# Altium integrated library NSC Audio.IntLib: 304 symbols (part 8 of 8)
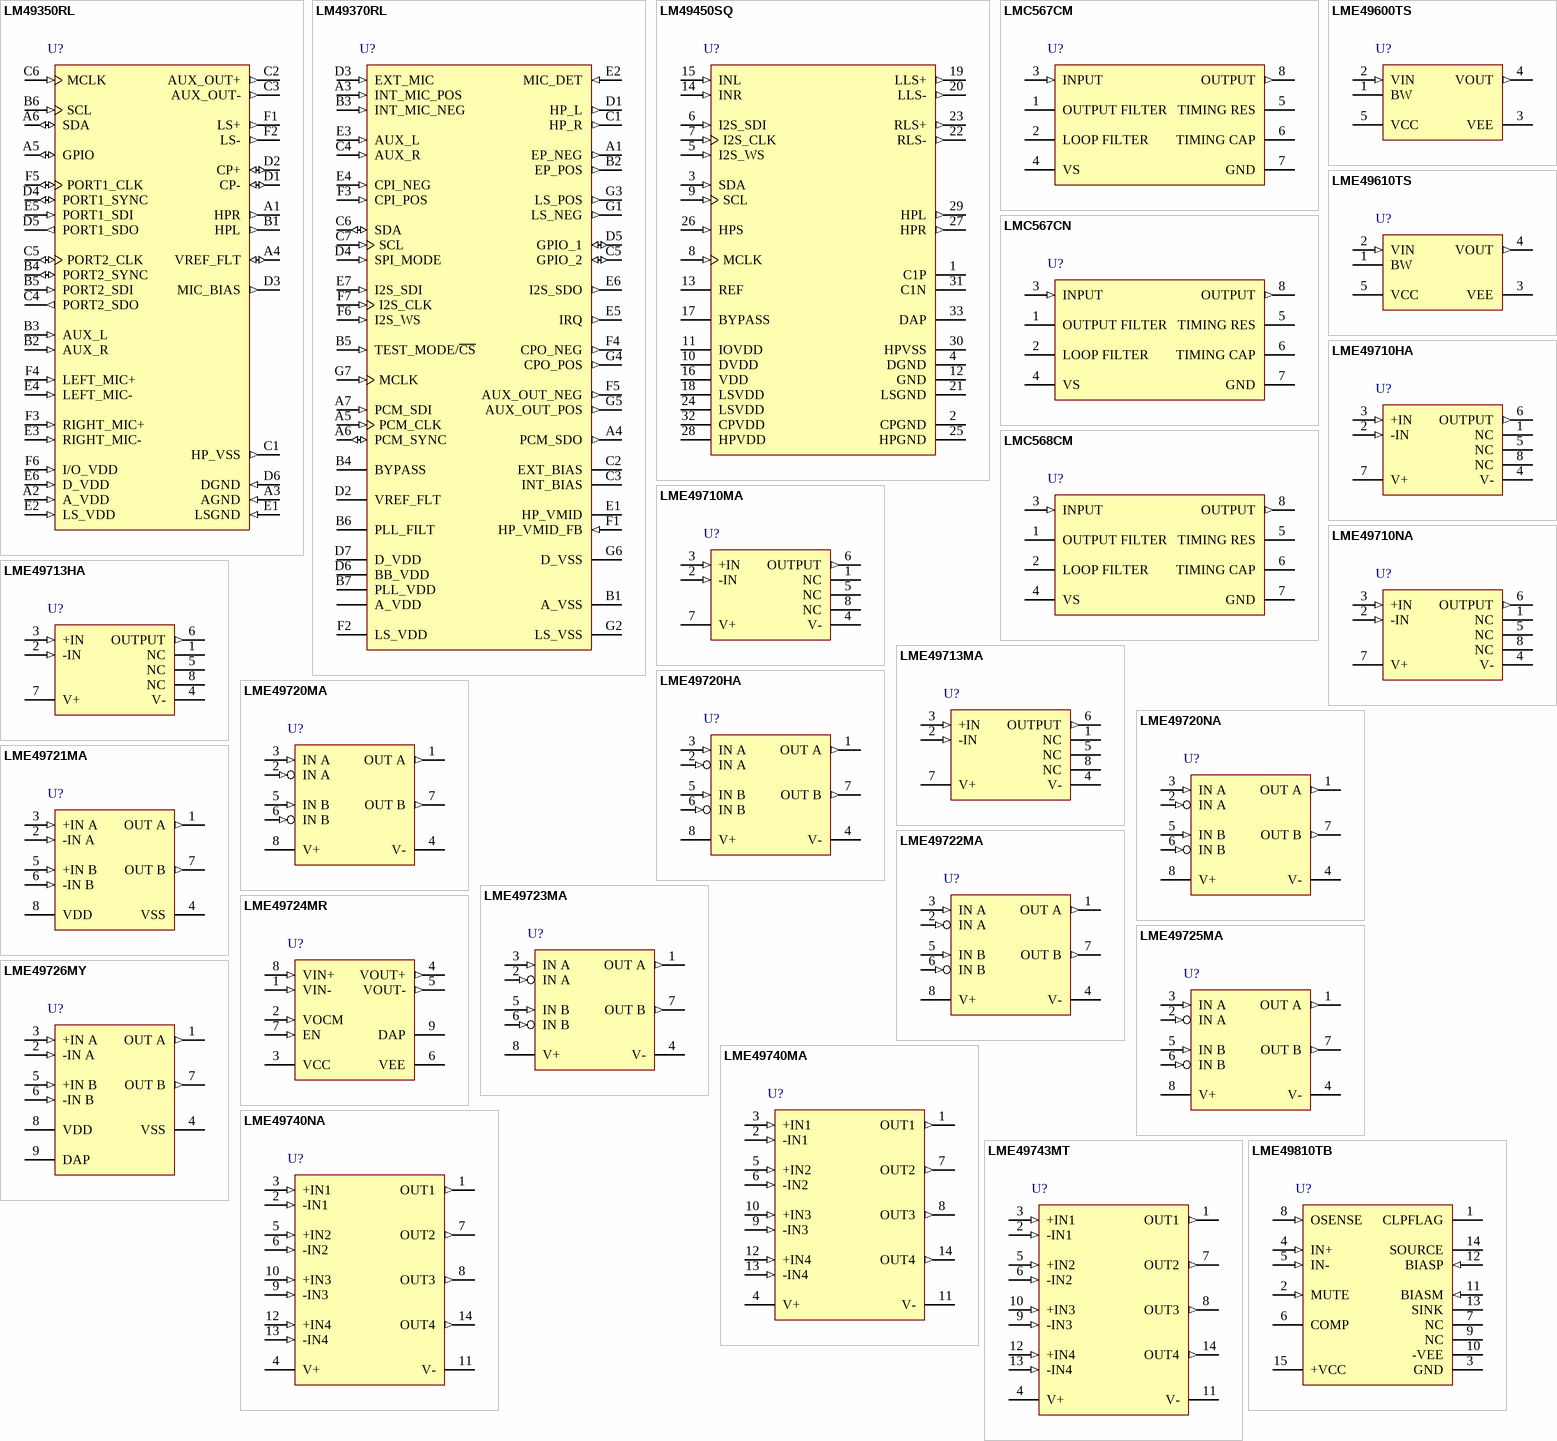
[diagram p19: symbols LM49350RL to LME49810TB]

## LME49713HA
designator U?
High Performance, High Fidelity Current Feedback Audio Operational Amplifier; PartNumber: LME49713HA; Manufacturer: National Semiconductor; CompType: Audio IC; PackageTopMarking: NSZXYTTE#*LME*49713HA; PowerWise: N; Published: 4-Dec-2008; DatasheetVersion: Aug-2008; PackageVersion: revF, Jun-1995; PackageReference: H08C; Publisher: Altium Limited; PackageDescription: Metal Can, TO-99, 8 Lead, .200 Dia., P.C.; RoHS: Y; PinCount: 8; Code_JEDEC: TO-99; ComponentLink1Description: LME49713 Datasheet; ComponentLink1URL: http://www.national.com/ds/LM/LME49713.pdf; ComponentLink2Description: LME49713 Web Page; ComponentLink2URL: http://www.national.com/pf/LM/LME49713.html; ComponentLink3Description: H08C Package Page; ComponentLink3URL: http://www.national.com/packaging/folders/h08c.html
footprint H08C (Can; 8 Leads; Pin Circle Dia. 5.08 mm; Lead Dia. 0.48 mm (max))
pins: 1 NC, 2 -IN (in), 3 +IN (in), 4 V- (power), 5 NC, 6 OUTPUT (out), 7 V+ (power), 8 NC

## LME49713MA
designator U?
High Performance, High Fidelity Current Feedback Audio Operational Amplifier; PartNumber: LME49713MA; Manufacturer: National Semiconductor; CompType: Audio IC; PackageTopMarking: NSZXTT*L49713*MA; PowerWise: N; Published: 4-Dec-2008; DatasheetVersion: Aug-2008; PackageVersion: revL, Sep-2006; PackageReference: M08A; Publisher: Altium Limited; PackageDescription: SOIC Narrow, 4.9 x 3.9 x 1.45mm, 8 Lead, 1.27mm Pitch; RoHS: Y; PinCount: 8; DigiKeyPartNumber: LME49713MA-ND; Code_JEDEC: MS-012-AA; Code_IPC: SOIC127P600-8; ComponentLink1Description: LME49713 Datasheet; ComponentLink1URL: http://www.national.com/ds/LM/LME49713.pdf; ComponentLink2Description: LME49713 Web Page; ComponentLink2URL: http://www.national.com/pf/LM/LME49713.html; ComponentLink3Description: M08A Package Page; ComponentLink3URL: http://www.national.com/packaging/folders/m08a.html
footprint M08A_N (SOIC, 8-Leads, Body 4.9x3.9mm, Pitch 1.27mm, IPC Medium Density)
footprint M08A_L (SOIC, 8-Leads, Body 4.9x3.9mm, Pitch 1.27mm, IPC High Density)
footprint M08A_M (SOIC, 8-Leads, Body 4.9x3.9mm, Pitch 1.27mm, IPC Low Density)
pins: 1 NC, 2 -IN (in), 3 +IN (in), 4 V- (power), 5 NC, 6 OUTPUT (out), 7 V+ (power), 8 NC

## LME49720HA
designator U?
Dual High Performance, High Fidelity Audio Operational Amplifier; PartNumber: LME49720HA; Manufacturer: National Semiconductor; CompType: Audio IC; PackageTopMarking: NSZXYTTE#*LME*49720HA; PowerWise: Y; Published: 4-Dec-2008; DatasheetVersion: Oct-2007; PackageVersion: revF, Jun-1995; PackageReference: H08C; Publisher: Altium Limited; PackageDescription: Metal Can, TO-99, 8 Lead, .200 Dia., P.C.; RoHS: Y; PinCount: 8; DigiKeyPartNumber: LME49720HA-ND; Code_JEDEC: TO-99; ComponentLink1Description: LME49720 Datasheet; ComponentLink1URL: http://www.national.com/ds/LM/LME49720.pdf; ComponentLink2Description: LME49720 Web Page; ComponentLink2URL: http://www.national.com/pf/LM/LME49720.html; ComponentLink3Description: H08C Package Page; ComponentLink3URL: http://www.national.com/packaging/folders/h08c.html
footprint H08C (Can; 8 Leads; Pin Circle Dia. 5.08 mm; Lead Dia. 0.48 mm (max))
pins: 1 OUT A (out), 2 IN A (in), 3 IN A (in), 4 V- (power), 5 IN B (in), 6 IN B (in), 7 OUT B (out), 8 V+ (power)

## LME49720MA
designator U?
Dual High Performance, High Fidelity Audio Operational Amplifier; PartNumber: LME49720MA; Manufacturer: National Semiconductor; CompType: Audio IC; PackageTopMarking: NSZXTT*L49720*MA; PowerWise: Y; Published: 4-Dec-2008; DatasheetVersion: Oct-2007; PackageVersion: revL, Sep-2006; PackageReference: M08A; Publisher: Altium Limited; PackageDescription: SOIC Narrow, 4.9 x 3.9 x 1.45mm, 8 Lead, 1.27mm Pitch; RoHS: Y; PinCount: 8; DigiKeyPartNumber: LME49720MA-ND; Code_JEDEC: MS-012-AA; Code_IPC: SOIC127P600-8; ComponentLink1Description: LME49720 Datasheet; ComponentLink1URL: http://www.national.com/ds/LM/LME49720.pdf; ComponentLink2Description: LME49720 Web Page; ComponentLink2URL: http://www.national.com/pf/LM/LME49720.html; ComponentLink3Description: M08A Package Page; ComponentLink3URL: http://www.national.com/packaging/folders/m08a.html
footprint M08A_N (SOIC, 8-Leads, Body 4.9x3.9mm, Pitch 1.27mm, IPC Medium Density)
footprint M08A_L (SOIC, 8-Leads, Body 4.9x3.9mm, Pitch 1.27mm, IPC High Density)
footprint M08A_M (SOIC, 8-Leads, Body 4.9x3.9mm, Pitch 1.27mm, IPC Low Density)
pins: 1 OUT A (out), 2 IN A (in), 3 IN A (in), 4 V- (power), 5 IN B (in), 6 IN B (in), 7 OUT B (out), 8 V+ (power)

## LME49720NA
designator U?
Dual High Performance, High Fidelity Audio Operational Amplifier; PartNumber: LME49720NA; Manufacturer: National Semiconductor; CompType: Audio IC; PackageTopMarking: NSUZXYTT*LME*49720NA; PowerWise: Y; Published: 4-Dec-2008; DatasheetVersion: Oct-2007; PackageVersion: revG, May-2006; PackageReference: N08E; Publisher: Altium Limited; PackageDescription: MDIP, .365 x .250 x .130in, 8 Lead, .100in Pitch; RoHS: Y; PinCount: 8; DigiKeyPartNumber: LME49720NA-ND; Code_JEDEC: MS-001-BA; ComponentLink1Description: LME49720 Datasheet; ComponentLink1URL: http://www.national.com/ds/LM/LME49720.pdf; ComponentLink2Description: LME49720 Web Page; ComponentLink2URL: http://www.national.com/pf/LM/LME49720.html; ComponentLink3Description: N08E Package Page; ComponentLink3URL: http://www.national.com/packaging/folders/n08e.html
footprint N08E (DIP, 8-Leads, Row Spacing 7.62mm, Pitch 2.54mm, Body 9.91x6.35mm)
pins: 1 OUT A (out), 2 IN A (in), 3 IN A (in), 4 V- (power), 5 IN B (in), 6 IN B (in), 7 OUT B (out), 8 V+ (power)

## LME49721MA
designator U?
High Performance, High Fidelity Rail-to-Rail Input/Output Audio Operational Amplifier; PartNumber: LME49721MA; Manufacturer: National Semiconductor; CompType: Audio IC; PackageTopMarking: NSZXTT*L49721*MA; PowerWise: N; Published: 4-Dec-2008; DatasheetVersion: Oct-2007; PackageVersion: revL, Sep-2006; PackageReference: M08A; Publisher: Altium Limited; PackageDescription: SOIC Narrow, 4.9 x 3.9 x 1.45mm, 8 Lead, 1.27mm Pitch; RoHS: O; PinCount: 8; DigiKeyPartNumber: LME49721MA-ND; Code_JEDEC: MS-012-AA; Code_IPC: SOIC127P600-8; ComponentLink1Description: LME49721 Datasheet; ComponentLink1URL: http://www.national.com/ds/LM/LME49721.pdf; ComponentLink2Description: LME49721 Web Page; ComponentLink2URL: http://www.national.com/pf/LM/LME49721.html; ComponentLink3Description: M08A Package Page; ComponentLink3URL: http://www.national.com/packaging/folders/m08a.html
footprint M08A_N (SOIC, 8-Leads, Body 4.9x3.9mm, Pitch 1.27mm, IPC Medium Density)
footprint M08A_L (SOIC, 8-Leads, Body 4.9x3.9mm, Pitch 1.27mm, IPC High Density)
footprint M08A_M (SOIC, 8-Leads, Body 4.9x3.9mm, Pitch 1.27mm, IPC Low Density)
pins: 1 OUT A (out), 2 -IN A (in), 3 +IN A (in), 4 VSS (power), 5 +IN B (in), 6 -IN B (in), 7 OUT B (out), 8 VDD (power)

## LME49722MA
designator U?
Low Noise,  High Performance, High Fidelity Dual Audio Operational Amplifier; PartNumber: LME49722MA; Manufacturer: National Semiconductor; CompType: Audio IC; PackageTopMarking: NSZXTT*L49722*MA; PowerWise: N; Published: 4-Dec-2008; DatasheetVersion: Mar-2008; PackageVersion: revL, Sep-2006; PackageReference: M08A; Publisher: Altium Limited; PackageDescription: SOIC Narrow, 4.9 x 3.9 x 1.45mm, 8 Lead, 1.27mm Pitch; RoHS: Y; PinCount: 8; DigiKeyPartNumber: LME49722MA-ND; Code_JEDEC: MS-012-AA; Code_IPC: SOIC127P600-8; ComponentLink1Description: LME49722 Datasheet; ComponentLink1URL: http://www.national.com/ds/LM/LME49722.pdf; ComponentLink2Description: LME49722 Web Page; ComponentLink2URL: http://www.national.com/pf/LM/LME49722.html; ComponentLink3Description: M08A Package Page; ComponentLink3URL: http://www.national.com/packaging/folders/m08a.html
footprint M08A_N (SOIC, 8-Leads, Body 4.9x3.9mm, Pitch 1.27mm, IPC Medium Density)
footprint M08A_L (SOIC, 8-Leads, Body 4.9x3.9mm, Pitch 1.27mm, IPC High Density)
footprint M08A_M (SOIC, 8-Leads, Body 4.9x3.9mm, Pitch 1.27mm, IPC Low Density)
pins: 1 OUT A (out), 2 IN A (in), 3 IN A (in), 4 V- (power), 5 IN B (in), 6 IN B (in), 7 OUT B (out), 8 V+ (power)

## LME49723MA
designator U?
Dual High Fidelity Audio Operational Amplifier; PartNumber: LME49723MA; Manufacturer: National Semiconductor; CompType: Audio IC; PackageTopMarking: NSZXTT*L49723*MA; PowerWise: N; Published: 4-Dec-2008; DatasheetVersion: Feb-2008; PackageVersion: revL, Sep-2006; PackageReference: M08A; Publisher: Altium Limited; PackageDescription: SOIC Narrow, 4.9 x 3.9 x 1.45mm, 8 Lead, 1.27mm Pitch; RoHS: Y; PinCount: 8; DigiKeyPartNumber: LME49723MA-ND; Code_JEDEC: MS-012-AA; Code_IPC: SOIC127P600-8; ComponentLink1Description: LME49723 Datasheet; ComponentLink1URL: http://www.national.com/ds/LM/LME49723.pdf; ComponentLink2Description: LME49723 Web Page; ComponentLink2URL: http://www.national.com/pf/LM/LME49723.html; ComponentLink3Description: M08A Package Page; ComponentLink3URL: http://www.national.com/packaging/folders/m08a.html
footprint M08A_N (SOIC, 8-Leads, Body 4.9x3.9mm, Pitch 1.27mm, IPC Medium Density)
footprint M08A_L (SOIC, 8-Leads, Body 4.9x3.9mm, Pitch 1.27mm, IPC High Density)
footprint M08A_M (SOIC, 8-Leads, Body 4.9x3.9mm, Pitch 1.27mm, IPC Low Density)
pins: 1 OUT A (out), 2 IN A (in), 3 IN A (in), 4 V- (power), 5 IN B (in), 6 IN B (in), 7 OUT B (out), 8 V+ (power)

## LME49724MR
designator U?
High Performance, High Fidelity, Fully-Differential Audio Operational Amplifier; PartNumber: LME49724MR; Manufacturer: National Semiconductor; CompType: Audio IC; PackageTopMarking: NSXYTT*L49724*MR; PowerWise: N; Published: 29-May-2009; DatasheetVersion: Nov-2008; PackageVersion: revB, Dec-2007; PackageReference: MRA08B; Publisher: Altium Limited; PackageDescription: Molded, PSOP .193 x .154 x .058in, 8 Lead, .050in Pitch, Large DAP; RoHS: Y; PinCount: 8; DigiKeyPartNumber: LME49724MR-ND; Code_JEDEC: MS-012-AA; ComponentLink1Description: LME49724 Datasheet; ComponentLink1URL: http://www.national.com/ds/LM/LME49724.pdf; ComponentLink2Description: LME49724 Web Page; ComponentLink2URL: http://www.national.com/pf/LM/LME49724.html; ComponentLink3Description: MRA08B Package Page; ComponentLink3URL: http://www.national.com/packaging/folders/mra08b.html
footprint MRA08B_N (SOIC, 8-Leads, Body 4.9x3.9mm, Pitch 1.27mm, Exposed Pad, IPC Medium Density)
footprint MRA08B_L (SOIC, 8-Leads, Body 4.9x3.9mm, Pitch 1.27mm, Exposed Pad, IPC High Density)
footprint MRA08B_M (SOIC, 8-Leads, Body 4.9x3.9mm, Pitch 1.27mm, Exposed Pad, IPC Low Density)
pins: 1 VIN- (in), 2 VOCM (in), 3 VCC (power), 4 VOUT+ (out), 5 VOUT- (out), 6 VEE (power), 7 EN (in), 8 VIN+ (in), 9 DAP (power)

## LME49725MA
designator U?
PowerWise(R) Dual High Performance, High Fidelity Audio Operational Amplifier; PartNumber: LME49725MA; Manufacturer: National Semiconductor; CompType: Audio IC; PackageTopMarking: NSZXTT*L49725*MA; PowerWise: Y; Published: 4-Dec-2008; DatasheetVersion: Apr-2008; PackageVersion: revL, Sep-2006; PackageReference: M08A; Publisher: Altium Limited; PackageDescription: SOIC Narrow, 4.9 x 3.9 x 1.45mm, 8 Lead, 1.27mm Pitch; RoHS: Y; PinCount: 8; DigiKeyPartNumber: LME49725MA-ND; Code_JEDEC: MS-012-AA; Code_IPC: SOIC127P600-8; ComponentLink1Description: LME49725 Datasheet; ComponentLink1URL: http://www.national.com/ds/LM/LME49725.pdf; ComponentLink2Description: LME49725 Web Page; ComponentLink2URL: http://www.national.com/pf/LM/LME49725.html; ComponentLink3Description: M08A Package Page; ComponentLink3URL: http://www.national.com/packaging/folders/m08a.html
footprint M08A_N (SOIC, 8-Leads, Body 4.9x3.9mm, Pitch 1.27mm, IPC Medium Density)
footprint M08A_L (SOIC, 8-Leads, Body 4.9x3.9mm, Pitch 1.27mm, IPC High Density)
footprint M08A_M (SOIC, 8-Leads, Body 4.9x3.9mm, Pitch 1.27mm, IPC Low Density)
pins: 1 OUT A (out), 2 IN A (in), 3 IN A (in), 4 V- (power), 5 IN B (in), 6 IN B (in), 7 OUT B (out), 8 V+ (power)

## LME49726MY
designator U?
High Current, Low Distortion Rail-to-Rail Output Audio Operational Amplifier; PartNumber: LME49726MY; Manufacturer: National Semiconductor; CompType: Audio IC; PackageTopMarking: ZXTT*ZA3; PowerWise: N; Published: 4-Dec-2008; DatasheetVersion: Nov-2008; PackageVersion: revA, Nov-2003; PackageReference: MUY08A; Publisher: Altium Limited; PackageDescription: Molded Mini-SO, Exposed Pad, .118 x .118 x .034in Body, 8 Lead, .0256in Pitch; RoHS: Y; PinCount: 8; Code_JEDEC: MO-187-AA; ComponentLink1Description: LME49726 Datasheet; ComponentLink1URL: http://www.national.com/ds/LM/LME49726.pdf; ComponentLink2Description: LME49726 Web Page; ComponentLink2URL: http://www.national.com/pf/LM/LME49726.html; ComponentLink3Description: MUY08A Package Page; ComponentLink3URL: http://www.national.com/packaging/folders/muy08a.html
footprint MUY08A_N (TSOP, 8-Leads, Body 3x3mm, Pitch 0.65mm, Exposed Pad, IPC Medium Density)
footprint MUY08A_L (TSOP, 8-Leads, Body 3x3mm, Pitch 0.65mm, Exposed Pad, IPC High Density)
footprint MUY08A_M (TSOP, 8-Leads, Body 3x3mm, Pitch 0.65mm, Exposed Pad, IPC Low Density)
pins: 1 OUT A (out), 2 -IN A (in), 3 +IN A (in), 4 VSS (power), 5 +IN B (in), 6 -IN B (in), 7 OUT B (out), 8 VDD (power), 9 DAP (power)

## LME49740MA
designator U?
Quad High Performance, High Fidelity Audio Operational Amplifier; PartNumber: LME49740MA; Manufacturer: National Semiconductor; CompType: Audio IC; PackageTopMarking: NSUZXYTT*LME49740*MA; PowerWise: Y; Published: 4-Dec-2008; DatasheetVersion: Feb-2008; PackageVersion: revJ, Jan-1996; PackageReference: M14A; Publisher: Altium Limited; PackageDescription: Molded Package S.O., .150in Wide, 14 Lead; RoHS: Y; PinCount: 14; DigiKeyPartNumber: LME49740MA-ND; Code_JEDEC: MS-012AB; Code_IPC: SOIC127P600-14; ComponentLink1Description: LME49740 Datasheet; ComponentLink1URL: http://www.national.com/ds/LM/LME49740.pdf; ComponentLink2Description: LME49740 Web Page; ComponentLink2URL: http://www.national.com/pf/LM/LME49740.html; ComponentLink3Description: M14A Package Page; ComponentLink3URL: http://www.national.com/packaging/folders/m14a.html
footprint M14A_N (SOIC, 14-Leads, Body 8.6x3.9mm, Pitch 1.27mm, IPC Medium Density)
footprint M14A_L (SOIC, 14-Leads, Body 8.6x3.9mm, Pitch 1.27mm, IPC High Density)
footprint M14A_M (SOIC, 14-Leads, Body 8.6x3.9mm, Pitch 1.27mm, IPC Low Density)
pins: 1 OUT1 (out), 2 -IN1 (in), 3 +IN1 (in), 4 V+ (power), 5 +IN2 (in), 6 -IN2 (in), 7 OUT2 (out), 8 OUT3 (out), 9 -IN3 (in), 10 +IN3 (in), 11 V- (power), 12 +IN4 (in), 13 -IN4 (in), 14 OUT4 (out)

## LME49740NA
designator U?
Quad High Performance, High Fidelity Audio Operational Amplifier; PartNumber: LME49740NA; Manufacturer: National Semiconductor; CompType: Audio IC; PackageTopMarking: NSUZXYYTTE#*LME49740NA; PowerWise: Y; Published: 4-Dec-2008; DatasheetVersion: Feb-2008; PackageVersion: revG, May-2006; PackageReference: N14A; Publisher: Altium Limited; PackageDescription: MDIP, .750 x .250 x.130in, 14 Lead, .100in Pitch; RoHS: Y; PinCount: 14; DigiKeyPartNumber: LME49740NA-ND; Code_JEDEC: MS-001-AA; ComponentLink1Description: LME49740 Datasheet; ComponentLink1URL: http://www.national.com/ds/LM/LME49740.pdf; ComponentLink2Description: LME49740 Web Page; ComponentLink2URL: http://www.national.com/pf/LM/LME49740.html; ComponentLink3Description: N14A Package Page; ComponentLink3URL: http://www.national.com/packaging/folders/n14a.html
footprint N14A (DIP, 14-Leads, Row Spacing 7.62mm, Pitch 2.54mm, Body 19.56x6.35mm)
pins: 1 OUT1 (out), 2 -IN1 (in), 3 +IN1 (in), 4 V+ (power), 5 +IN2 (in), 6 -IN2 (in), 7 OUT2 (out), 8 OUT3 (out), 9 -IN3 (in), 10 +IN3 (in), 11 V- (power), 12 +IN4 (in), 13 -IN4 (in), 14 OUT4 (out)

## LME49743MT
designator U?
Quad High Performance, High Fidelity Audio Operational Amplifier; PartNumber: LME49743MT; Manufacturer: National Semiconductor; CompType: Audio IC; PackageTopMarking: NSUZXYTT*L49743*MT; PowerWise: N; Published: 4-Dec-2008; DatasheetVersion: Mar-2008; PackageVersion: revD, Jun-2003; PackageReference: MTC14; Publisher: Altium Limited; PackageDescription: Molded TSSOP, JEDEC, 5 x 4.4 x 0.9mm Body, 14 Lead, 0.65mm Pitch; RoHS: Y; PinCount: 14; DigiKeyPartNumber: LME49743MT-ND; Code_JEDEC: MO-153-AB-1; ComponentLink1Description: LME49743 Datasheet; ComponentLink1URL: http://www.national.com/ds/LM/LME49743.pdf; ComponentLink2Description: LME49743 Web Page; ComponentLink2URL: http://www.national.com/pf/LM/LME49743.html; ComponentLink3Description: MTC14 Package Page; ComponentLink3URL: http://www.national.com/packaging/folders/mtc14.html
footprint MTC14_N (TSOP, 14-Leads, Body 5x4.4mm, Pitch 0.65mm, IPC Medium Density)
footprint MTC14_L (TSOP, 14-Leads, Body 5x4.4mm, Pitch 0.65mm, IPC High Density)
footprint MTC14_M (TSOP, 14-Leads, Body 5x4.4mm, Pitch 0.65mm, IPC Low Density)
pins: 1 OUT1 (out), 2 -IN1 (in), 3 +IN1 (in), 4 V+ (power), 5 +IN2 (in), 6 -IN2 (in), 7 OUT2 (out), 8 OUT3 (out), 9 -IN3 (in), 10 +IN3 (in), 11 V- (power), 12 +IN4 (in), 13 -IN4 (in), 14 OUT4 (out)

## LME49810TB
designator U?
200V Audio Power Amplifier Driver  with Baker Clamp; PartNumber: LME49810TB; Manufacturer: National Semiconductor; CompType: Audio IC; PackageTopMarking: NSUZXYTT*LME49810*TB; PowerWise: N; Published: 4-Dec-2008; DatasheetVersion: Sep-2007; PackageVersion: revA, Feb-2005; PackageReference: TB15A; Publisher: Altium Limited; PackageDescription: TO-247, Molded, 19.0 x 11.5 x 2.54mm, 15 Lead, 0.965mm Pitch; RoHS: Y; PinCount: 15; DigiKeyPartNumber: LME49810TB-ND; ComponentLink1Description: LME49810 Datasheet; ComponentLink1URL: http://www.national.com/ds/LM/LME49810.pdf; ComponentLink2Description: LME49810 Web Page; ComponentLink2URL: http://www.national.com/pf/LM/LME49810.html; ComponentLink3Description: TB15A Package Page; ComponentLink3URL: http://www.national.com/packaging/folders/tb15a.html
footprint TB15A (In-Line; 15 Zig-Zag Leads; Body 19 x 2.54mm; Pitch 0.965mm)
pins: 1 CLPFLAG (oc), 2 MUTE (in), 3 GND (power), 4 IN+ (in), 5 IN- (in), 6 COMP, 7 NC, 8 OSENSE (in), 9 NC, 10 -VEE (power), 11 BIASM (in), 12 BIASP (in), 13 SINK (oc), 14 SOURCE (oe), 15 +VCC (power)

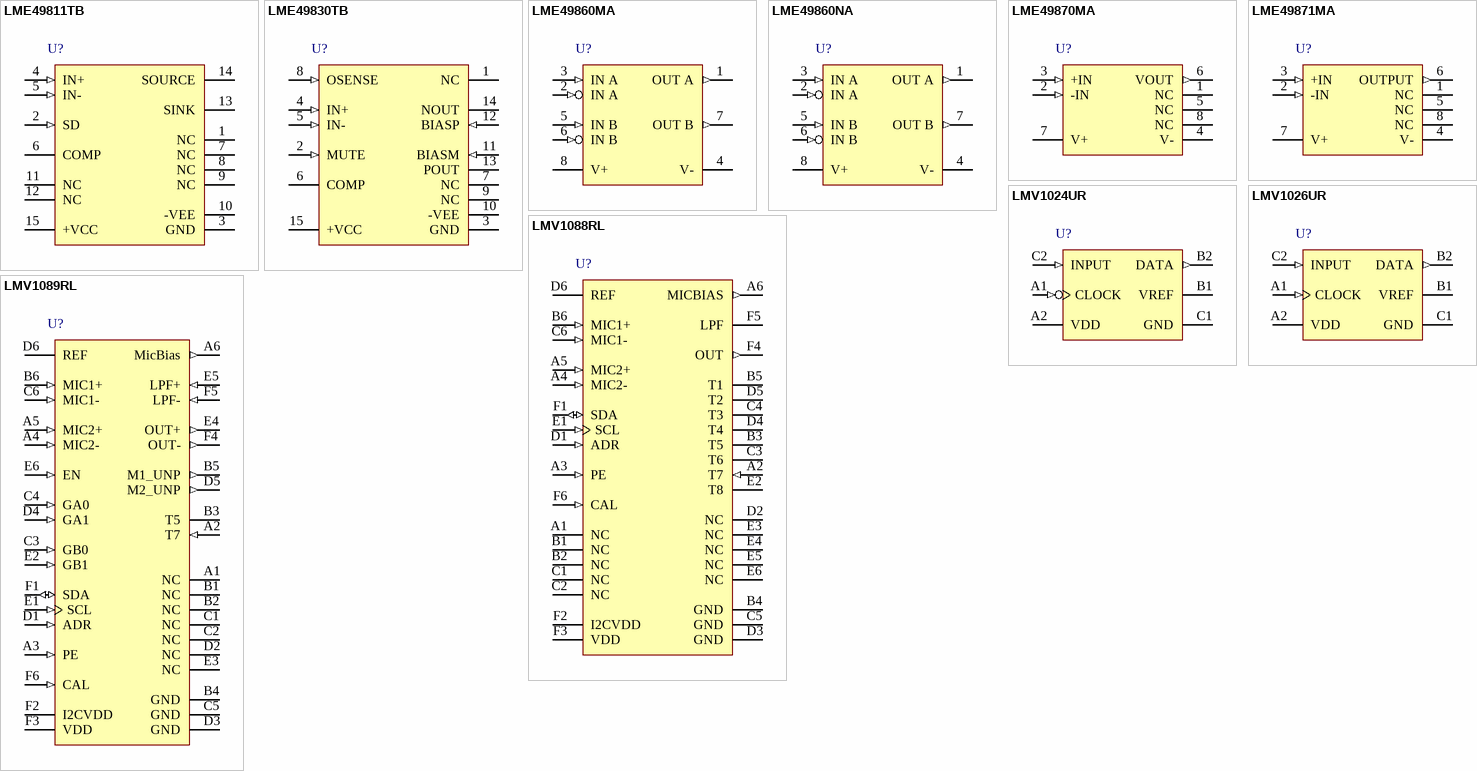
[diagram p12: symbols LME49811TB to LMV1089RL]

## LME49811TB
designator U?
High Fidelity 200 Volt Power Amplifier Input Stage with Shutdown; PartNumber: LME49811TB; Manufacturer: National Semiconductor; CompType: Audio IC; PackageTopMarking: NSUZXYTT*LME49811*TB; PowerWise: N; Published: 4-Dec-2008; DatasheetVersion: Jan-2008; PackageVersion: revA, Feb-2005; PackageReference: TB15A; Publisher: Altium Limited; PackageDescription: TO-247, Molded, 19.0 x 11.5 x 2.54mm, 15 Lead, 0.965mm Pitch; RoHS: Y; PinCount: 15; DigiKeyPartNumber: LME49811TB-ND; ComponentLink1Description: LME49811 Datasheet; ComponentLink1URL: http://www.national.com/ds/LM/LME49811.pdf; ComponentLink2Description: LME49811 Web Page; ComponentLink2URL: http://www.national.com/pf/LM/LME49811.html; ComponentLink3Description: TB15A Package Page; ComponentLink3URL: http://www.national.com/packaging/folders/tb15a.html
footprint TB15A (In-Line; 15 Zig-Zag Leads; Body 19 x 2.54mm; Pitch 0.965mm)
pins: 1 NC, 2 SD (in), 3 GND (power), 4 IN+ (in), 5 IN- (in), 6 COMP, 7 NC, 8 NC, 9 NC, 10 -VEE (power), 11 NC, 12 NC, 13 SINK (oc), 14 SOURCE (oe), 15 +VCC (power)

## LME49830TB
designator U?
Mono High Fidelity 200 Volt MOSFET Power Amplifier Input Stage with Mute; PartNumber: LME49830TB; Manufacturer: National Semiconductor; CompType: Audio IC; PackageTopMarking: NSUZXYTT*LME49830*TB; PowerWise: N; Published: 4-Dec-2008; DatasheetVersion: Jan-2008; PackageVersion: revA, Feb-2005; PackageReference: TB15A; Publisher: Altium Limited; PackageDescription: TO-247, Molded, 19.0 x 11.5 x 2.54mm, 15 Lead, 0.965mm Pitch; RoHS: Y; PinCount: 15; DigiKeyPartNumber: LME49830TB-ND; ComponentLink1Description: LME49830 Datasheet; ComponentLink1URL: http://www.national.com/ds/LM/LME49830.pdf; ComponentLink2Description: LME49830 Web Page; ComponentLink2URL: http://www.national.com/pf/LM/LME49830.html; ComponentLink3Description: TB15A Package Page; ComponentLink3URL: http://www.national.com/packaging/folders/tb15a.html
footprint TB15A (In-Line; 15 Zig-Zag Leads; Body 19 x 2.54mm; Pitch 0.965mm)
pins: 1 NC, 2 MUTE (in), 3 GND (power), 4 IN+ (in), 5 IN- (in), 6 COMP, 7 NC, 8 OSENSE (in), 9 NC, 10 -VEE (power), 11 BIASM (in), 12 BIASP (in), 13 POUT (oc), 14 NOUT (oe), 15 +VCC (power)

## LME49860MA
designator U?
44V Dual High Performance, High Fidelity Audio Operational Amplifier; PartNumber: LME49860MA; Manufacturer: National Semiconductor; CompType: Audio IC; PackageTopMarking: NSZXTT*L49860*MA; PowerWise: N; Published: 4-Dec-2008; DatasheetVersion: Jul-2007; PackageVersion: revL, Sep-2006; PackageReference: M08A; Publisher: Altium Limited; PackageDescription: SOIC Narrow, 4.9 x 3.9 x 1.45mm, 8 Lead, 1.27mm Pitch; RoHS: Y; PinCount: 8; DigiKeyPartNumber: LME49860MA-ND; Code_JEDEC: MS-012-AA; Code_IPC: SOIC127P600-8; ComponentLink1Description: LME49860 Datasheet; ComponentLink1URL: http://www.national.com/ds/LM/LME49860.pdf; ComponentLink2Description: LME49860 Web Page; ComponentLink2URL: http://www.national.com/pf/LM/LME49860.html; ComponentLink3Description: M08A Package Page; ComponentLink3URL: http://www.national.com/packaging/folders/m08a.html
footprint M08A_N (SOIC, 8-Leads, Body 4.9x3.9mm, Pitch 1.27mm, IPC Medium Density)
footprint M08A_L (SOIC, 8-Leads, Body 4.9x3.9mm, Pitch 1.27mm, IPC High Density)
footprint M08A_M (SOIC, 8-Leads, Body 4.9x3.9mm, Pitch 1.27mm, IPC Low Density)
pins: 1 OUT A (out), 2 IN A (in), 3 IN A (in), 4 V- (power), 5 IN B (in), 6 IN B (in), 7 OUT B (out), 8 V+ (power)

## LME49860NA
designator U?
44V Dual High Performance, High Fidelity Audio Operational Amplifier; PartNumber: LME49860NA; Manufacturer: National Semiconductor; CompType: Audio IC; PackageTopMarking: NSUZXYTT*LME*49860NA; PowerWise: N; Published: 4-Dec-2008; DatasheetVersion: Jul-2007; PackageVersion: revG, May-2006; PackageReference: N08E; Publisher: Altium Limited; PackageDescription: MDIP, .365 x .250 x .130in, 8 Lead, .100in Pitch; RoHS: Y; PinCount: 8; DigiKeyPartNumber: LME49860NA-ND; Code_JEDEC: MS-001-BA; ComponentLink1Description: LME49860 Datasheet; ComponentLink1URL: http://www.national.com/ds/LM/LME49860.pdf; ComponentLink2Description: LME49860 Web Page; ComponentLink2URL: http://www.national.com/pf/LM/LME49860.html; ComponentLink3Description: N08E Package Page; ComponentLink3URL: http://www.national.com/packaging/folders/n08e.html
footprint N08E (DIP, 8-Leads, Row Spacing 7.62mm, Pitch 2.54mm, Body 9.91x6.35mm)
pins: 1 OUT A (out), 2 IN A (in), 3 IN A (in), 4 V- (power), 5 IN B (in), 6 IN B (in), 7 OUT B (out), 8 V+ (power)

## LME49870MA
designator U?
44V Single High Performance, High Fidelity Audio Operational Amplifier; PartNumber: LME49870MA; Manufacturer: National Semiconductor; CompType: Audio IC; PackageTopMarking: NSZXTT*L49870*MA; PowerWise: N; Published: 4-Dec-2008; DatasheetVersion: Jan-2008; PackageVersion: revL, Sep-2006; PackageReference: M08A; Publisher: Altium Limited; PackageDescription: SOIC Narrow, 4.9 x 3.9 x 1.45mm, 8 Lead, 1.27mm Pitch; RoHS: Y; PinCount: 8; DigiKeyPartNumber: LME49870MA-ND; Code_JEDEC: MS-012-AA; Code_IPC: SOIC127P600-8; ComponentLink1Description: LME49870 Datasheet; ComponentLink1URL: http://www.national.com/ds/LM/LME49870.pdf; ComponentLink2Description: LME49870 Web Page; ComponentLink2URL: http://www.national.com/pf/LM/LME49870.html; ComponentLink3Description: M08A Package Page; ComponentLink3URL: http://www.national.com/packaging/folders/m08a.html
footprint M08A_N (SOIC, 8-Leads, Body 4.9x3.9mm, Pitch 1.27mm, IPC Medium Density)
footprint M08A_L (SOIC, 8-Leads, Body 4.9x3.9mm, Pitch 1.27mm, IPC High Density)
footprint M08A_M (SOIC, 8-Leads, Body 4.9x3.9mm, Pitch 1.27mm, IPC Low Density)
pins: 1 NC, 2 -IN (in), 3 +IN (in), 4 V- (power), 5 NC, 6 VOUT (out), 7 V+ (power), 8 NC

## LME49871MA
designator U?
High Performance, High Fidelity Current Feedback Audio Operational Amplifier; PartNumber: LME49871MA; Manufacturer: National Semiconductor; CompType: Audio IC; PackageTopMarking: NSZXTT*L49871*MA; PowerWise: N; Published: 4-Dec-2008; DatasheetVersion: Apr-2008; PackageVersion: revL, Sep-2006; PackageReference: M08A; Publisher: Altium Limited; PackageDescription: SOIC Narrow, 4.9 x 3.9 x 1.45mm, 8 Lead, 1.27mm Pitch; RoHS: Y; PinCount: 8; Code_JEDEC: MS-012-AA; Code_IPC: SOIC127P600-8; ComponentLink1Description: LME49871 Datasheet; ComponentLink1URL: http://www.national.com/ds/LM/LME49871.pdf; ComponentLink2Description: LME49871 Web Page; ComponentLink2URL: http://www.national.com/pf/LM/LME49871.html; ComponentLink3Description: M08A Package Page; ComponentLink3URL: http://www.national.com/packaging/folders/m08a.html
footprint M08A_N (SOIC, 8-Leads, Body 4.9x3.9mm, Pitch 1.27mm, IPC Medium Density)
footprint M08A_L (SOIC, 8-Leads, Body 4.9x3.9mm, Pitch 1.27mm, IPC High Density)
footprint M08A_M (SOIC, 8-Leads, Body 4.9x3.9mm, Pitch 1.27mm, IPC Low Density)
pins: 1 NC, 2 -IN (in), 3 +IN (in), 4 V- (power), 5 NC, 6 OUTPUT (out), 7 V+ (power), 8 NC

## LMV1024UR
designator U?
PDM Output with Pre-Amplifier for Electret Microphones; PartNumber: LMV1024UR; Manufacturer: National Semiconductor; CompType: Audio IC; PackageTopMarking: XVA*I E; Published: 4-Dec-2008; DatasheetVersion: Nov-2005; PackageVersion: revA, Mar-2005; PackageReference: URA06GGA; Publisher: Altium Limited; PackageDescription: Ultra Thin Micro SMD, 6 Bump, Large Dome Bumps, 0.5mm Pitch; RoHS: Y; PinCount: 6; DigiKeyPartNumber: LMV1024URCT-ND; ComponentLink1Description: LMV1024 Datasheet; ComponentLink1URL: http://www.national.com/ds/LM/LMV1024.pdf; ComponentLink2Description: LMV1024 Web Page; ComponentLink2URL: http://www.national.com/pf/LM/LMV1024.html; ComponentLink3Description: URA06GGA Package Page; ComponentLink3URL: http://www.national.com/packaging/folders/ura06gga.html
footprint URA06GGA (Micro SMD, 6-Leads, Body 1.63x1.13mm, Pitch 0.5mm, NSC Recommended)
pins: A1 CLOCK (in), A2 VDD (power), B1 VREF, B2 DATA (out), C1 GND (power), C2 INPUT (in)

## LMV1026UR
designator U?
PDM Output with Pre-Amplifier for Electret Microphones; PartNumber: LMV1026UR; Manufacturer: National Semiconductor; CompType: Audio IC; PackageTopMarking: XVA*I F; Published: 4-Dec-2008; DatasheetVersion: Nov-2005; PackageVersion: revA, Mar-2005; PackageReference: URA06GGA; Publisher: Altium Limited; PackageDescription: Ultra Thin Micro SMD, 6 Bump, Large Dome Bumps, 0.5mm Pitch; RoHS: N; PinCount: 6; DigiKeyPartNumber: LMV1026URCT-ND; ComponentLink1Description: LMV1026 Datasheet; ComponentLink1URL: http://www.national.com/ds/LM/LMV1026.pdf; ComponentLink2Description: LMV1026 Web Page; ComponentLink2URL: http://www.national.com/pf/LM/LMV1026.html; ComponentLink3Description: URA06GGA Package Page; ComponentLink3URL: http://www.national.com/packaging/folders/ura06gga.html
footprint URA06GGA (Micro SMD, 6-Leads, Body 1.63x1.13mm, Pitch 0.5mm, NSC Recommended)
pins: A1 CLOCK (in), A2 VDD (power), B1 VREF, B2 DATA (out), C1 GND (power), C2 INPUT (in)

## LMV1088RL
designator U?
Dual Input, Clarisound TM Far Field Noise Suppression Microphone Amplifier with Automatic Calibration Ability; PartNumber: LMV1088RL; Manufacturer: National Semiconductor; CompType: Audio IC; PackageTopMarking: XYTT*I ZA1; PowerWise: Y; Published: 4-Dec-2008; DatasheetVersion: Apr-2008; PackageVersion: revA, 2008; PackageReference: RLA36TTA; Publisher: Altium Limited; PackageDescription: Micro SMDxt, 36 Bump (Large), 0.5mm Pitch; RoHS: Y; PinCount: 36; DigiKeyPartNumber: LMV1088RLCT-ND; ComponentLink1Description: LMV1088 Datasheet; ComponentLink1URL: http://www.national.com/ds/LM/LMV1088.pdf; ComponentLink2Description: LMV1088 Web Page; ComponentLink2URL: http://www.national.com/pf/LM/LMV1088.html; ComponentLink3Description: RLA36TTA Package Page; ComponentLink3URL: http://www.national.com/packaging/folders/rla36tta.html
footprint RLA36TTA (Micro SMD, 36-Leads, Body 3.46x3.46mm, Pitch 0.5mm, NSC Recommended)
pins: A1 NC, A2 T7 (in), A3 PE (in), A4 MIC2- (in), A5 MIC2+ (in), A6 MICBIAS (out), B1 NC, B2 NC, B3 T5, B4 GND (power), B5 T1, B6 MIC1+ (in), C1 NC, C2 NC, C3 T6, C4 T3, C5 GND (power), C6 MIC1- (in), D1 ADR (in), D2 NC, D3 GND (power), D4 T4, D5 T2, D6 REF, E1 SCL (in), E2 T8 (power), E3 NC, E4 NC, E5 NC, E6 NC, F1 SDA (io), F2 I2CVDD (power), F3 VDD (power), F4 OUT (out), F5 LPF, F6 CAL (in)

## LMV1089RL
designator U?
Dual Input, ClarisoundTM Far Field Noise Suppression Microphone Amplifier with Automatic Calibration Capability; PartNumber: LMV1089RL; Manufacturer: National Semiconductor; CompType: Audio IC; PackageTopMarking: XYTT*I ZA2; PowerWise: Y; Published: 4-Dec-2008; DatasheetVersion: Oct-2008; PackageVersion: revA, 2008; PackageReference: RLA36TTA; Publisher: Altium Limited; PackageDescription: Micro SMDxt, 36 Bump (Large), 0.5mm Pitch; RoHS: Y; PinCount: 36; ComponentLink1Description: LMV1089 Datasheet; ComponentLink1URL: http://www.national.com/ds/LM/LMV1089.pdf; ComponentLink2Description: LMV1089 Web Page; ComponentLink2URL: http://www.national.com/pf/LM/LMV1089.html; ComponentLink3Description: RLA36TTA Package Page; ComponentLink3URL: http://www.national.com/packaging/folders/rla36tta.html
footprint RLA36TTA (Micro SMD, 36-Leads, Body 3.46x3.46mm, Pitch 0.5mm, NSC Recommended)
pins: A1 NC, A2 T7 (in), A3 PE (in), A4 MIC2- (in), A5 MIC2+ (in), A6 MicBias (out), B1 NC, B2 NC, B3 T5, B4 GND (power), B5 M1_UNP (out), B6 MIC1+ (in), C1 NC, C2 NC, C3 GB0 (in), C4 GA0 (in), C5 GND (power), C6 MIC1- (in), D1 ADR (in), D2 NC, D3 GND (power), D4 GA1 (in), D5 M2_UNP (out), D6 REF, E1 SCL (in), E2 GB1 (in), E3 NC, E4 OUT+ (out), E5 LPF+ (in), E6 EN (in), F1 SDA (io), F2 I2CVDD (power), F3 VDD (power), F4 OUT- (out), F5 LPF- (in), F6 CAL (in)